# Altium schematic symbol library IC_Digital.SchLib: 22 symbols
Pins are listed as number, name and electrical type; pins without a type are passive.

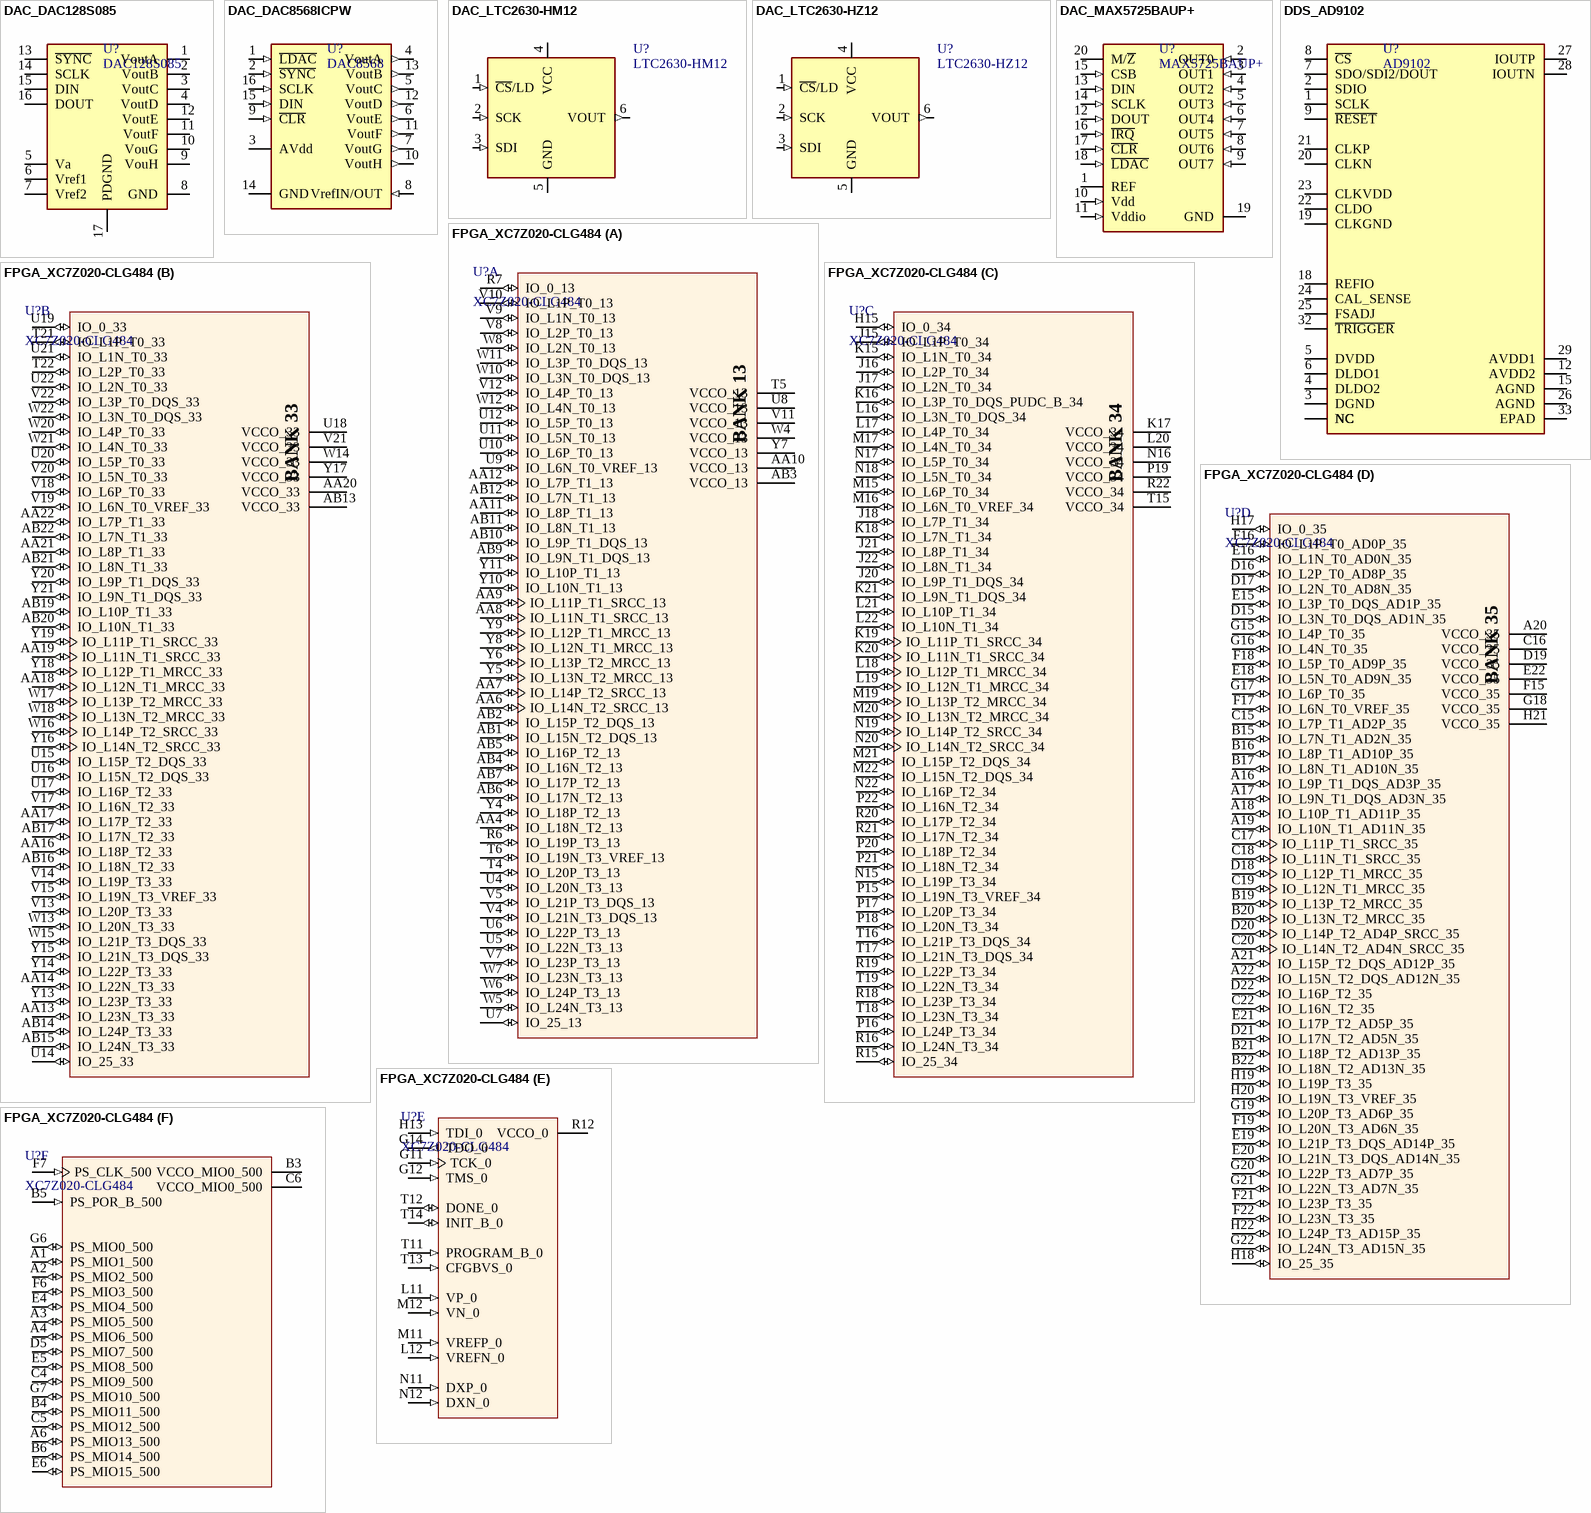
[diagram p0: symbols DAC_DAC128S085 to FPGA_XC7Z020-CLG484]

## DAC_DAC128S085
designator U?, comment DAC128S085
8 Channel 12bit DAC; Manufacturer: Texas Instruments; Manufacturer No: DAC128S085CISQ/NOPB; Tech: SMDR; Package: WFQFN16; Supplier 1: Mouser; Supplier Part Number 1: 926-DA128S085CISQNPB; Supplier 2: Newark; Supplier Part Number 2: 84M7863; Supplier 3: Digi-Key; Supplier Part Number 3: DAC128S085CISQ/NOPBCT-ND
footprint QFN50P400X400X80EP260-16L (QFN, 16-Leads, Body 4,0x4,0mm (max), Pitch 0,50mm, IPC Medium Density)
pins: 1 VoutA, 2 VoutB, 3 VoutC, 4 VoutD, 5 Va, 6 Vref1, 7 Vref2, 8 GND, 9 VouH, 10 VouG, 11 VoutF, 12 VoutE, 13 ~{SYNC}, 14 SCLK, 15 DIN, 16 DOUT, 17 PDGND

## DAC_DAC8568ICPW
designator U?  Comment_2: DAC8568  (hidden comment: *)
8 Channel 16bit DAC; Manufacturer: Texas Instruments; Manufacturer No: DAC8568ICPW; Sort: 510; Tech: SMDR; Package: TSSOP16; Price: 27.81; Supplier: Digi-Key; Supplier No: 296-24446-5-ND; Supplier 1: Digi-Key; Supplier Part Number 1: 296-24446-5-ND; Supplier 2: Newark; Supplier Part Number 2: 24R5981; Comment_1: *
footprint TSSOP16 (TSSOP16 5x4.4mm R0.65mm)
pins: 1 ~{LDAC} (in), 2 ~{SYNC} (in), 3 AVdd (power), 4 VoutA (out), 5 VoutC (out), 6 VoutE (out), 7 VoutG (out), 8 VrefIN/OUT (in), 9 ~{CLR} (in), 10 VoutH (out), 11 VoutF (out), 12 VoutD (out), 13 VoutB (out), 14 GND (power), 15 DIN (in), 16 SCLK (in)

## DAC_LTC2630-HM12
designator U?, comment LTC2630-HM12
12-Bit Vout DAC; Manufacturer: Linear Technology; Manufacturer No: LTC2630CSC6-HM12#TRMPBF; Comment2: 12bit 4.096Vout Mid-Scale; Tech: SMDR; Package: 6-Lead Plastic SC70; Supplier 1: Digi-Key; Supplier Part Number 1: LTC2630CSC6-HM12#TRMPBFCT-ND
footprint SC70-6 (6-Leads, Body 2,0x2,1mm (max), Pitch 0,65mm, IPC Medium Density)
pins: 1 ~{CS}/LD (in), 2 SCK (in), 3 SDI (in), 4 VCC (power), 5 GND (power), 6 VOUT (out)

## DAC_LTC2630-HZ12
designator U?, comment LTC2630-HZ12
12-Bit Vout DAC 12 bit 4.096IntREF ResetToZero; Manufacturer: Linear Technology; Manufacturer No: LTC2630AISC6-HZ12#TRMPBF; Comment2: 12bit 4.096Vout Mid-Scale; Tech: SMDR; Package: 6-Lead Plastic SC70; Supplier 1: Newark; Supplier Part Number 1: 56M6136; Supplier 2: Digi-Key; Supplier Part Number 2: LTC2630AISC6-HZ12#TRMPBFCT-ND
footprint SC70-6 (6-Leads, Body 2,0x2,1mm (max), Pitch 0,65mm, IPC Medium Density)
pins: 1 ~{CS}/LD (in), 2 SCK (in), 3 SDI (in), 4 VCC (power), 5 GND (power), 6 VOUT (out)

## DAC_MAX5725BAUP+
designator U?, comment MAX5725BAUP+
8 Channel 12bit DAC; Manufacturer: Maxim; Tech: SMDR; Manufacturer No: MAX5725BAUP+; Package: TSSOP20; Supplier 1: Mouser; Supplier Part Number 1: 700-MAX5725BAUP+; Supplier 2: Digi-Key; Supplier Part Number 2: MAX5725BAUP+-ND
footprint TSSOP20N (TSSOP 20, Body 6,6x4,5mm, R0,65mm, IPC Medium Density)
pins: 1 REF, 2 OUT0 (in), 3 OUT1 (in), 4 OUT2 (in), 5 OUT3 (in), 6 OUT4 (in), 7 OUT5 (in), 8 OUT6 (in), 9 OUT7 (in), 10 Vdd (in), 11 Vddio (in), 12 DOUT (in), 13 DIN (in), 14 SCLK (in), 15 CSB (in), 16 ~{IRQ} (in), 17 ~{CLR} (in), 18 ~{LDAC} (in), 19 GND, 20 M/~{Z}

## DDS_AD9102
designator U?, comment AD9102
Low Power, 14-Bit, 180 MSPS, Digital-to-Analog  Converter and Waveform Generator; Manufacturer: Analog Devices; Manufacturer No: AD9102BCPZ; Tech: SMDR; Package: QFN32; Supplier 1: Mouser; Supplier Part Number 1: 584-AD9102BCPZ; Supplier 2: Newark; Supplier Part Number 2: 55W5824; Supplier 3: Digi-Key; Supplier Part Number 3: AD9102BCPZ-ND
footprint QFN50P500X500X100-32N2 (QFN, 32-Leads, Body 5,0x5,0mm (max), Pitch 0,50mm, IPC Medium Density)
pins: 1 SCLK, 2 SDIO, 3 DGND, 4 DLDO2, 5 DVDD, 6 DLDO1, 7 SDO/SDI2/DOUT, 8 ~{CS}, 9 ~{RESET}, 10 NC, 11 NC, 12 AVDD2, 13 NC, 14 NC, 15 AGND, 16 NC, 17 NC, 18 REFIO, 19 CLKGND, 20 CLKN, 21 CLKP, 22 CLDO, 23 CLKVDD, 24 CAL_SENSE, 25 FSADJ, 26 AGND, 27 IOUTP, 28 IOUTN, 29 AVDD1, 30 NC, 31 NC, 32 ~{TRIGGER}, 33 EPAD

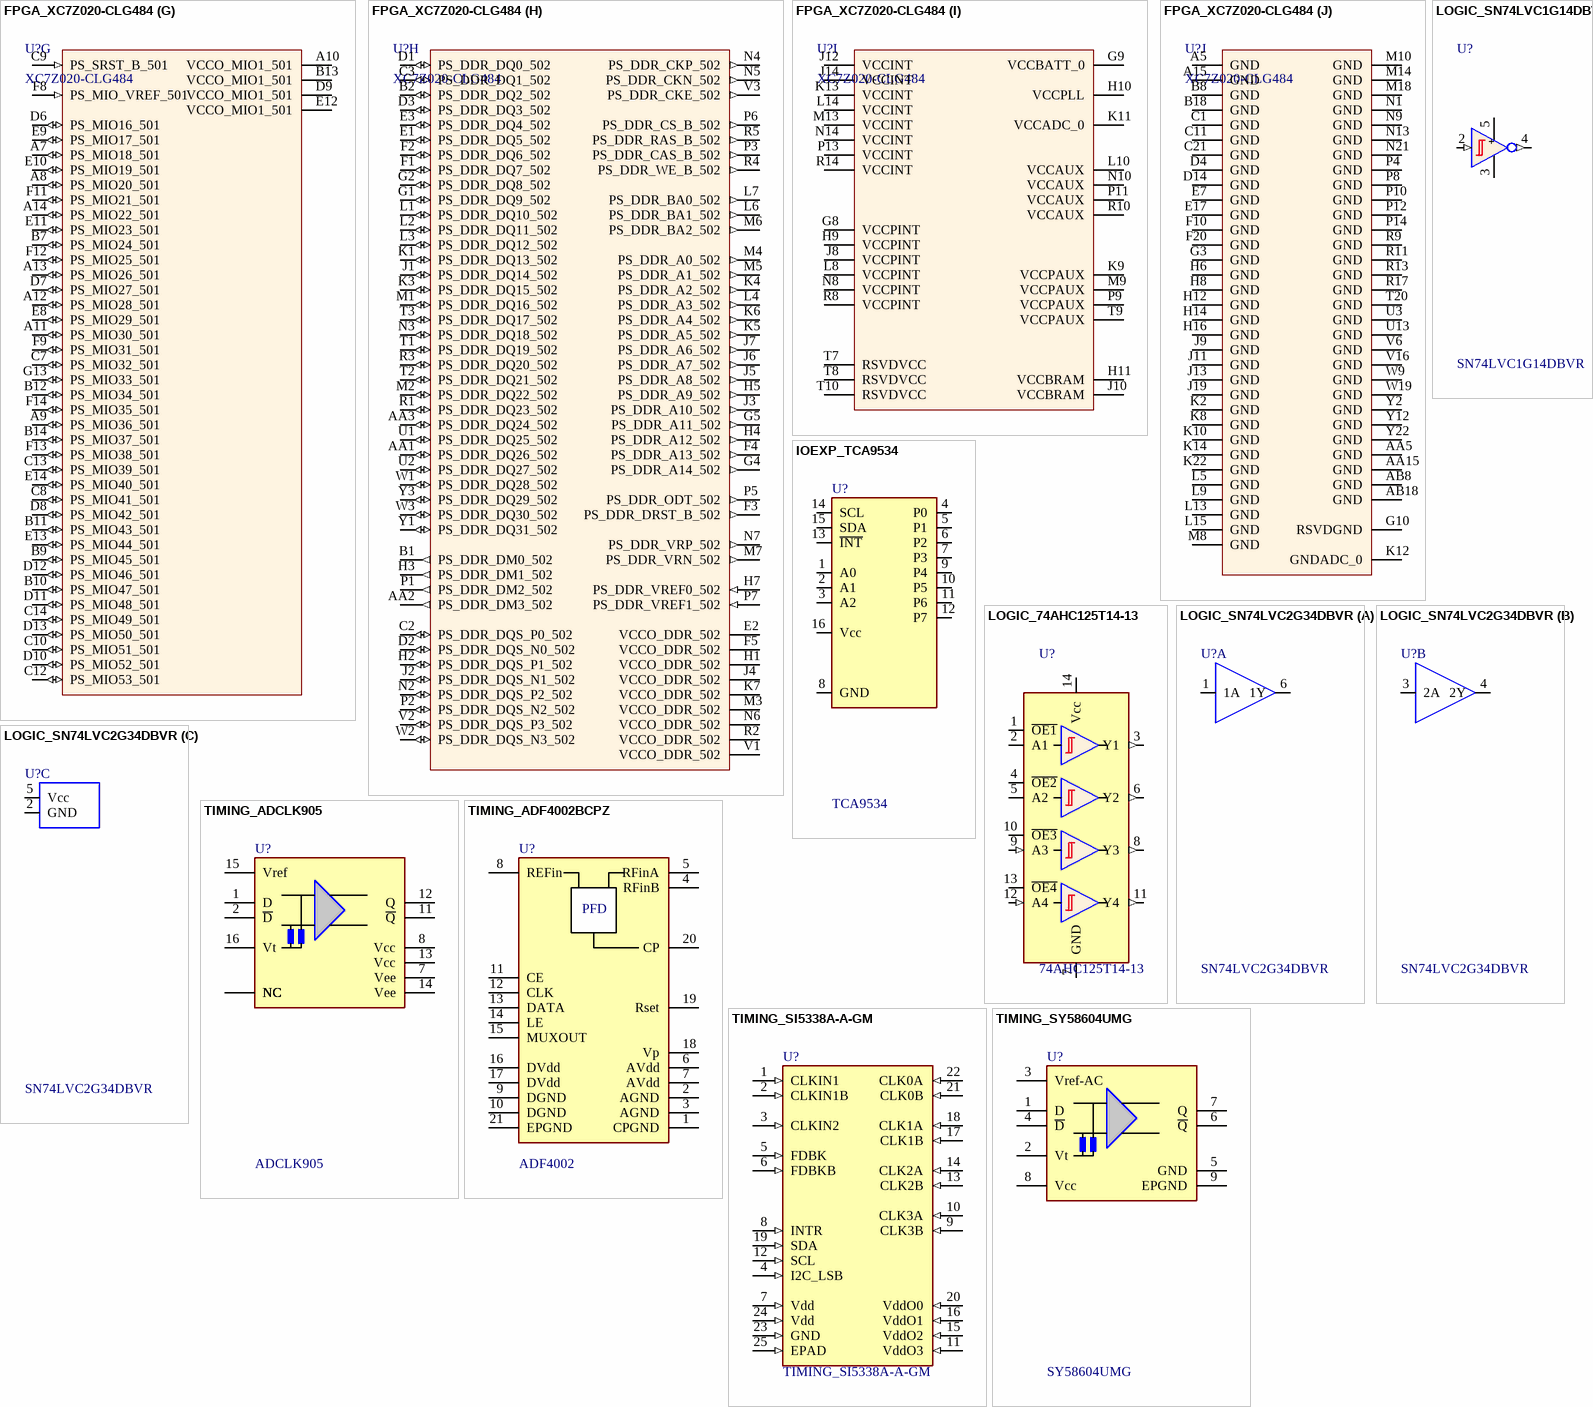
[diagram p1: symbols FPGA_XC7Z020-CLG484 to TIMING_SY58604UMG]

## FPGA_XC7Z020-CLG484
designator U?, comment XC7Z020-CLG484
Xilinx Zynq7020 (CortexA9/Artix) 484 pin SG1 0 to 85 degC; Manufacturer No: XC7Z020-1CLG484C; Tech: SMDR; Manufacturer: Xilinx; Package: CLG484; Supplier 1: Digi-Key; Supplier Part Number 1: 122-1850-ND
footprint BGA484C80P22X22_1900X1900X160 (BGA, 484-Balls, Body 19x19mm, Pitch 0.8mm)
part A pins: AA4 IO_L18N_T2_13 (io), AA6 IO_L14N_T2_SRCC_13 (io), AA7 IO_L14P_T2_SRCC_13 (io), AA8 IO_L11N_T1_SRCC_13 (io), AA9 IO_L11P_T1_SRCC_13 (io), AA10 VCCO_13 (power), AA11 IO_L8P_T1_13 (io), AA12 IO_L7P_T1_13 (io), AB1 IO_L15N_T2_DQS_13 (io), AB2 IO_L15P_T2_DQS_13 (io), AB3 VCCO_13 (power), AB4 IO_L16N_T2_13 (io), AB5 IO_L16P_T2_13 (io), AB6 IO_L17N_T2_13 (io), AB7 IO_L17P_T2_13 (io), AB9 IO_L9N_T1_DQS_13 (io), AB10 IO_L9P_T1_DQS_13 (io), AB11 IO_L8N_T1_13 (io), AB12 IO_L7N_T1_13 (io), R6 IO_L19P_T3_13 (io), R7 IO_0_13 (io), T4 IO_L20P_T3_13 (io), T5 VCCO_13 (power), T6 IO_L19N_T3_VREF_13 (io), U4 IO_L20N_T3_13 (io), U5 IO_L22N_T3_13 (io), U6 IO_L22P_T3_13 (io), U7 IO_25_13 (io), U8 VCCO_13 (power), U9 IO_L6N_T0_VREF_13 (io), U10 IO_L6P_T0_13 (io), U11 IO_L5N_T0_13 (io), U12 IO_L5P_T0_13 (io), V4 IO_L21N_T3_DQS_13 (io), V5 IO_L21P_T3_DQS_13 (io), V7 IO_L23P_T3_13 (io), V8 IO_L2P_T0_13 (io), V9 IO_L1N_T0_13 (io), V10 IO_L1P_T0_13 (io), V11 VCCO_13 (power), V12 IO_L4P_T0_13 (io), W4 VCCO_13 (power), W5 IO_L24N_T3_13 (io), W6 IO_L24P_T3_13 (io), W7 IO_L23N_T3_13 (io), W8 IO_L2N_T0_13 (io), W10 IO_L3N_T0_DQS_13 (io), W11 IO_L3P_T0_DQS_13 (io), W12 IO_L4N_T0_13 (io), Y4 IO_L18P_T2_13 (io), Y5 IO_L13N_T2_MRCC_13 (io), Y6 IO_L13P_T2_MRCC_13 (io), Y7 VCCO_13 (power), Y8 IO_L12N_T1_MRCC_13 (io), Y9 IO_L12P_T1_MRCC_13 (io), Y10 IO_L10N_T1_13 (io), Y11 IO_L10P_T1_13 (io)
part B pins: AA13 IO_L23N_T3_33 (io), AA14 IO_L22N_T3_33 (io), AA16 IO_L18P_T2_33 (io), AA17 IO_L17P_T2_33 (io), AA18 IO_L12N_T1_MRCC_33 (io), AA19 IO_L11N_T1_SRCC_33 (io), AA20 VCCO_33 (power), AA21 IO_L8P_T1_33 (io), AA22 IO_L7P_T1_33 (io), AB13 VCCO_33 (power), AB14 IO_L24P_T3_33 (io), AB15 IO_L24N_T3_33 (io), AB16 IO_L18N_T2_33 (io), AB17 IO_L17N_T2_33 (io), AB19 IO_L10P_T1_33 (io), AB20 IO_L10N_T1_33 (io), AB21 IO_L8N_T1_33 (io), AB22 IO_L7N_T1_33 (io), T21 IO_L1P_T0_33 (io), T22 IO_L2P_T0_33 (io), U14 IO_25_33 (io), U15 IO_L15P_T2_DQS_33 (io), U16 IO_L15N_T2_DQS_33 (io), U17 IO_L16P_T2_33 (io), U18 VCCO_33 (power), U19 IO_0_33 (io), U20 IO_L5P_T0_33 (io), U21 IO_L1N_T0_33 (io), U22 IO_L2N_T0_33 (io), V13 IO_L20P_T3_33 (io), V14 IO_L19P_T3_33 (io), V15 IO_L19N_T3_VREF_33 (io), V17 IO_L16N_T2_33 (io), V18 IO_L6P_T0_33 (io), V19 IO_L6N_T0_VREF_33 (io), V20 IO_L5N_T0_33 (io), V21 VCCO_33 (power), V22 IO_L3P_T0_DQS_33 (io), W13 IO_L20N_T3_33 (io), W14 VCCO_33 (power), W15 IO_L21P_T3_DQS_33 (io), W16 IO_L14P_T2_SRCC_33 (io), W17 IO_L13P_T2_MRCC_33 (io), W18 IO_L13N_T2_MRCC_33 (io), W20 IO_L4P_T0_33 (io), W21 IO_L4N_T0_33 (io), W22 IO_L3N_T0_DQS_33 (io), Y13 IO_L23P_T3_33 (io), Y14 IO_L22P_T3_33 (io), Y15 IO_L21N_T3_DQS_33 (io), Y16 IO_L14N_T2_SRCC_33 (io), Y17 VCCO_33 (power), Y18 IO_L12P_T1_MRCC_33 (io), Y19 IO_L11P_T1_SRCC_33 (io), Y20 IO_L9P_T1_DQS_33 (io), Y21 IO_L9N_T1_DQS_33 (io)
part C pins: H15 IO_0_34 (io), J15 IO_L1P_T0_34 (io), J16 IO_L2P_T0_34 (io), J17 IO_L2N_T0_34 (io), J18 IO_L7P_T1_34 (io), J20 IO_L9P_T1_DQS_34 (io), J21 IO_L8P_T1_34 (io), J22 IO_L8N_T1_34 (io), K15 IO_L1N_T0_34 (io), K16 IO_L3P_T0_DQS_PUDC_B_34 (io), K17 VCCO_34 (power), K18 IO_L7N_T1_34 (io), K19 IO_L11P_T1_SRCC_34 (io), K20 IO_L11N_T1_SRCC_34 (io), K21 IO_L9N_T1_DQS_34 (io), L16 IO_L3N_T0_DQS_34 (io), L17 IO_L4P_T0_34 (io), L18 IO_L12P_T1_MRCC_34 (io), L19 IO_L12N_T1_MRCC_34 (io), L20 VCCO_34 (power), L21 IO_L10P_T1_34 (io), L22 IO_L10N_T1_34 (io), M15 IO_L6P_T0_34 (io), M16 IO_L6N_T0_VREF_34 (io), M17 IO_L4N_T0_34 (io), M19 IO_L13P_T2_MRCC_34 (io), M20 IO_L13N_T2_MRCC_34 (io), M21 IO_L15P_T2_DQS_34 (io), M22 IO_L15N_T2_DQS_34 (io), N15 IO_L19P_T3_34 (io), N16 VCCO_34 (power), N17 IO_L5P_T0_34 (io), N18 IO_L5N_T0_34 (io), N19 IO_L14P_T2_SRCC_34 (io), N20 IO_L14N_T2_SRCC_34 (io), N22 IO_L16P_T2_34 (io), P15 IO_L19N_T3_VREF_34 (io), P16 IO_L24P_T3_34 (io), P17 IO_L20P_T3_34 (io), P18 IO_L20N_T3_34 (io), P19 VCCO_34 (power), P20 IO_L18P_T2_34 (io), P21 IO_L18N_T2_34 (io), P22 IO_L16N_T2_34 (io), R15 IO_25_34 (io), R16 IO_L24N_T3_34 (io), R18 IO_L23P_T3_34 (io), R19 IO_L22P_T3_34 (io), R20 IO_L17P_T2_34 (io), R21 IO_L17N_T2_34 (io), R22 VCCO_34 (power), T15 VCCO_34 (power), T16 IO_L21P_T3_DQS_34 (io), T17 IO_L21N_T3_DQS_34 (io), T18 IO_L23N_T3_34 (io), T19 IO_L22N_T3_34 (io)
part D pins: A16 IO_L9P_T1_DQS_AD3P_35 (io), A17 IO_L9N_T1_DQS_AD3N_35 (io), A18 IO_L10P_T1_AD11P_35 (io), A19 IO_L10N_T1_AD11N_35 (io), A20 VCCO_35 (power), A21 IO_L15P_T2_DQS_AD12P_35 (io), A22 IO_L15N_T2_DQS_AD12N_35 (io), B15 IO_L7N_T1_AD2N_35 (io), B16 IO_L8P_T1_AD10P_35 (io), B17 IO_L8N_T1_AD10N_35 (io), B19 IO_L13P_T2_MRCC_35 (io), B20 IO_L13N_T2_MRCC_35 (io), B21 IO_L18P_T2_AD13P_35 (io), B22 IO_L18N_T2_AD13N_35 (io), C15 IO_L7P_T1_AD2P_35 (io), C16 VCCO_35 (power), C17 IO_L11P_T1_SRCC_35 (io), C18 IO_L11N_T1_SRCC_35 (io), C19 IO_L12N_T1_MRCC_35 (io), C20 IO_L14N_T2_AD4N_SRCC_35 (io), C22 IO_L16N_T2_35 (io), D15 IO_L3N_T0_DQS_AD1N_35 (io), D16 IO_L2P_T0_AD8P_35 (io), D17 IO_L2N_T0_AD8N_35 (io), D18 IO_L12P_T1_MRCC_35 (io), D19 VCCO_35 (power), D20 IO_L14P_T2_AD4P_SRCC_35 (io), D21 IO_L17N_T2_AD5N_35 (io), D22 IO_L16P_T2_35 (io), E15 IO_L3P_T0_DQS_AD1P_35 (io), E16 IO_L1N_T0_AD0N_35 (io), E18 IO_L5N_T0_AD9N_35 (io), E19 IO_L21P_T3_DQS_AD14P_35 (io), E20 IO_L21N_T3_DQS_AD14N_35 (io), E21 IO_L17P_T2_AD5P_35 (io), E22 VCCO_35 (power), F15 VCCO_35 (power), F16 IO_L1P_T0_AD0P_35 (io), F17 IO_L6N_T0_VREF_35 (io), F18 IO_L5P_T0_AD9P_35 (io), F19 IO_L20N_T3_AD6N_35 (io), F21 IO_L23P_T3_35 (io), F22 IO_L23N_T3_35 (io), G15 IO_L4P_T0_35 (io), G16 IO_L4N_T0_35 (io), G17 IO_L6P_T0_35 (io), G18 VCCO_35 (power), G19 IO_L20P_T3_AD6P_35 (io), G20 IO_L22P_T3_AD7P_35 (io), G21 IO_L22N_T3_AD7N_35 (io), G22 IO_L24N_T3_AD15N_35 (io), H17 IO_0_35 (io), H18 IO_25_35 (io), H19 IO_L19P_T3_35 (io), H20 IO_L19N_T3_VREF_35 (io), H21 VCCO_35 (power), H22 IO_L24P_T3_AD15P_35 (io)
part E pins: G11 TCK_0 (in), G12 TMS_0 (in), G14 TDO_0 (out), H13 TDI_0 (in), L11 VP_0 (in), L12 VREFN_0 (in), M11 VREFP_0 (in), M12 VN_0 (in), N11 DXP_0 (in), N12 DXN_0 (in), R12 VCCO_0 (power), T11 PROGRAM_B_0 (in), T12 DONE_0 (io), T13 CFGBVS_0 (in), T14 INIT_B_0 (io)
part F pins: A1 PS_MIO1_500 (io), A2 PS_MIO2_500 (io), A3 PS_MIO5_500 (io), A4 PS_MIO6_500 (io), A6 PS_MIO13_500 (io), B3 VCCO_MIO0_500 (power), B4 PS_MIO11_500 (io), B5 PS_POR_B_500 (in), B6 PS_MIO14_500 (io), C4 PS_MIO9_500 (io), C5 PS_MIO12_500 (io), C6 VCCO_MIO0_500 (power), D5 PS_MIO7_500 (io), E4 PS_MIO4_500 (io), E5 PS_MIO8_500 (io), E6 PS_MIO15_500 (io), F6 PS_MIO3_500 (io), F7 PS_CLK_500 (in), G6 PS_MIO0_500 (io), G7 PS_MIO10_500 (io)
part G pins: A7 PS_MIO18_501 (io), A8 PS_MIO20_501 (io), A9 PS_MIO36_501 (io), A10 VCCO_MIO1_501 (power), A11 PS_MIO30_501 (io), A12 PS_MIO28_501 (io), A13 PS_MIO26_501 (io), A14 PS_MIO22_501 (io), B7 PS_MIO24_501 (io), B9 PS_MIO45_501 (io), B10 PS_MIO47_501 (io), B11 PS_MIO43_501 (io), B12 PS_MIO34_501 (io), B13 VCCO_MIO1_501 (power), B14 PS_MIO37_501 (io), C7 PS_MIO32_501 (io), C8 PS_MIO41_501 (io), C9 PS_SRST_B_501 (in), C10 PS_MIO51_501 (io), C12 PS_MIO53_501 (io), C13 PS_MIO39_501 (io), C14 PS_MIO49_501 (io), D6 PS_MIO16_501 (io), D7 PS_MIO27_501 (io), D8 PS_MIO42_501 (io), D9 VCCO_MIO1_501 (power), D10 PS_MIO52_501 (io), D11 PS_MIO48_501 (io), D12 PS_MIO46_501 (io), D13 PS_MIO50_501 (io), E8 PS_MIO29_501 (io), E9 PS_MIO17_501 (io), E10 PS_MIO19_501 (io), E11 PS_MIO23_501 (io), E12 VCCO_MIO1_501 (power), E13 PS_MIO44_501 (io), E14 PS_MIO40_501 (io), F8 PS_MIO_VREF_501 (in), F9 PS_MIO31_501 (io), F11 PS_MIO21_501 (io), F12 PS_MIO25_501 (io), F13 PS_MIO38_501 (io), F14 PS_MIO35_501 (io), G13 PS_MIO33_501 (io)
part H pins: AA1 PS_DDR_DQ26_502 (io), AA2 PS_DDR_DM3_502 (out), AA3 PS_DDR_DQ24_502 (io), B1 PS_DDR_DM0_502 (out), B2 PS_DDR_DQ2_502 (io), C2 PS_DDR_DQS_P0_502 (io), C3 PS_DDR_DQ1_502 (io), D1 PS_DDR_DQ0_502 (io), D2 PS_DDR_DQS_N0_502 (io), D3 PS_DDR_DQ3_502 (io), E1 PS_DDR_DQ5_502 (io), E2 VCCO_DDR_502 (power), E3 PS_DDR_DQ4_502 (io), F1 PS_DDR_DQ7_502 (io), F2 PS_DDR_DQ6_502 (io), F3 PS_DDR_DRST_B_502 (out), F4 PS_DDR_A13_502 (out), F5 VCCO_DDR_502 (power), G1 PS_DDR_DQ9_502 (io), G2 PS_DDR_DQ8_502 (io), G4 PS_DDR_A14_502 (out), G5 PS_DDR_A11_502 (out), H1 VCCO_DDR_502 (power), H2 PS_DDR_DQS_P1_502 (io), H3 PS_DDR_DM1_502 (out), H4 PS_DDR_A12_502 (out), H5 PS_DDR_A9_502 (out), H7 PS_DDR_VREF0_502 (in), J1 PS_DDR_DQ14_502 (io), J2 PS_DDR_DQS_N1_502 (io), J3 PS_DDR_A10_502 (out), J4 VCCO_DDR_502 (power), J5 PS_DDR_A8_502 (out), J6 PS_DDR_A7_502 (out), J7 PS_DDR_A6_502 (out), K1 PS_DDR_DQ13_502 (io), K3 PS_DDR_DQ15_502 (io), K4 PS_DDR_A2_502 (out), K5 PS_DDR_A5_502 (out), K6 PS_DDR_A4_502 (out), K7 VCCO_DDR_502 (power), L1 PS_DDR_DQ10_502 (io), L2 PS_DDR_DQ11_502 (io), L3 PS_DDR_DQ12_502 (io), L4 PS_DDR_A3_502 (out), L6 PS_DDR_BA1_502 (out), L7 PS_DDR_BA0_502 (out), M1 PS_DDR_DQ16_502 (io), M2 PS_DDR_DQ22_502 (io), M3 VCCO_DDR_502 (power), M4 PS_DDR_A0_502 (out), M5 PS_DDR_A1_502 (out), M6 PS_DDR_BA2_502 (out), M7 PS_DDR_VRN_502 (out), N2 PS_DDR_DQS_P2_502 (io), N3 PS_DDR_DQ18_502 (io), N4 PS_DDR_CKP_502 (out), N5 PS_DDR_CKN_502 (out), N6 VCCO_DDR_502 (power), N7 PS_DDR_VRP_502 (out), P1 PS_DDR_DM2_502 (out), P2 PS_DDR_DQS_N2_502 (io), P3 PS_DDR_CAS_B_502 (out), P5 PS_DDR_ODT_502 (out), P6 PS_DDR_CS_B_502 (out), P7 PS_DDR_VREF1_502 (in), R1 PS_DDR_DQ23_502 (io), R2 VCCO_DDR_502 (power), R3 PS_DDR_DQ20_502 (io), R4 PS_DDR_WE_B_502 (out), R5 PS_DDR_RAS_B_502 (out), T1 PS_DDR_DQ19_502 (io), T2 PS_DDR_DQ21_502 (io), T3 PS_DDR_DQ17_502 (io), U1 PS_DDR_DQ25_502 (io), U2 PS_DDR_DQ27_502 (io), V1 VCCO_DDR_502 (power), V2 PS_DDR_DQS_P3_502 (io), V3 PS_DDR_CKE_502 (out), W1 PS_DDR_DQ28_502 (io), W2 PS_DDR_DQS_N3_502 (io), W3 PS_DDR_DQ30_502 (io), Y1 PS_DDR_DQ31_502 (io), Y3 PS_DDR_DQ29_502 (io)
part I pins: G8 VCCPINT (power), G9 VCCBATT_0 (power), H9 VCCPINT (power), H10 VCCPLL (power), H11 VCCBRAM (power), J8 VCCPINT (power), J10 VCCBRAM (power), J12 VCCINT (power), J14 VCCINT (power), K9 VCCPAUX (power), K11 VCCADC_0 (power), K13 VCCINT (power), L8 VCCPINT (power), L10 VCCAUX (power), L14 VCCINT (power), M9 VCCPAUX (power), M13 VCCINT (power), N8 VCCPINT (power), N10 VCCAUX (power), N14 VCCINT (power), P9 VCCPAUX (power), P11 VCCAUX (power), P13 VCCINT (power), R8 VCCPINT (power), R10 VCCAUX (power), R14 VCCINT (power), T7 RSVDVCC (power), T8 RSVDVCC (power), T9 VCCPAUX (power), T10 RSVDVCC (power)
part J pins: A5 GND (power), A15 GND (power), AA5 GND (power), AA15 GND (power), AB8 GND (power), AB18 GND (power), B8 GND (power), B18 GND (power), C1 GND (power), C11 GND (power), C21 GND (power), D4 GND (power), D14 GND (power), E7 GND (power), E17 GND (power), F10 GND (power), F20 GND (power), G3 GND (power), G10 RSVDGND (power), H6 GND (power), H8 GND (power), H12 GND (power), H14 GND (power), H16 GND (power), J9 GND (power), J11 GND (power), J13 GND (power), J19 GND (power), K2 GND (power), K8 GND (power), K10 GND (power), K12 GNDADC_0 (power), K14 GND (power), K22 GND (power), L5 GND (power), L9 GND (power), L13 GND (power), L15 GND (power), M8 GND (power), M10 GND (power), M14 GND (power), M18 GND (power), N1 GND (power), N9 GND (power), N13 GND (power), N21 GND (power), P4 GND (power), P8 GND (power), P10 GND (power), P12 GND (power), P14 GND (power), R9 GND (power), R11 GND (power), R13 GND (power), R17 GND (power), T20 GND (power), U3 GND (power), U13 GND (power), V6 GND (power), V16 GND (power), W9 GND (power), W19 GND (power), Y2 GND (power), Y12 GND (power), Y22 GND (power)
part A text: BANK 13
part B text: BANK 33
part C text: BANK 34
part D text: BANK 35

## IOEXP_TCA9534
designator U?, comment TCA9534
8-Bit I2C I/O Expander With Interrupt  Output and Configuration Registers; Manufacturer: Texas Instruments; Manufacturer No: TCA9534PWR; Tech: SMDR; Package: LFCSP-16; Supplier 1: Mouser; Supplier Part Number 1: 595-TCA9534PWR; Supplier 2: Newark; Supplier Part Number 2: 87X2228; Supplier 3: Digi-Key; Supplier Part Number 3: 296-40574-1-ND
footprint TSSOP16 (TSSOP16 5x4.4mm R0.65mm)
pins: 1 A0, 2 A1, 3 A2, 4 P0, 5 P1, 6 P2, 7 P3, 8 GND, 9 P4, 10 P5, 11 P6, 12 P7, 13 ~{INT}, 14 SCL, 15 SDA, 16 Vcc

## LOGIC_74AHC125T14-13
designator U?, comment 74AHC125T14-13
Quad Schmitt trigger buffer; Manufacturer: Diodes; Tech: SMDR; Manufacturer No: 74AHC125T14-13; Package: TSSOP14; Supplier 1: Mouser; Supplier 2: Digi-Key
footprint TSOP65P640X120-14N (TSSOP14, 14-Leads, Body 5,1x4,4mm (max), Pitch 0,65mm, IPC Medium Density)
pins: 1 ~{OE1}, 2 A1, 3 Y1 (out), 4 ~{OE2}, 5 A2, 6 Y2 (out), 7 GND, 8 Y3 (out), 9 A3 (in), 10 ~{OE3}, 11 Y4 (out), 12 A4 (in), 13 ~{OE4}, 14 Vcc

## LOGIC_SN74LVC1G14DBVR
designator U?, comment SN74LVC1G14DBVR
Single Schmitt trigger Inverter; Manufacturer: Texas; Tech: SMDR; Manufacturer No: SN74LVC1G14DBVR; Package: SOT23-5; Supplier 1: Mouser; Supplier Part Number 1: 595-SN74LVC1G14DBVR; Supplier 2: Digi-Key; Supplier Part Number 2: 296-35945-6-ND
footprint SOT23-5
pins: 2 A (in), 3 GND, 4 Y (out), 5 Vcc
text: +

## LOGIC_SN74LVC2G34DBVR
designator U?, comment SN74LVC2G34DBVR
Dual Gate Buffer; Manufacturer: Texas Instruments; Tech: SMDR; Manufacturer No: SN74LVC2G34DBVR; Package: SOT23-6; Supplier 1: Newark; Supplier Part Number 1: 76C4213; Supplier 2: Mouser; Supplier Part Number 2: 595-SN74LVC2G34DBVR; Supplier 3: Digi-Key; Supplier Part Number 3: 296-13496-1-ND
footprint SOT23-6
part A pins: 1 1A, 6 1Y
part B pins: 3 2A, 4 2Y
part C pins: 2 GND, 5 Vcc

## TIMING_ADCLK905
designator U?, comment ADCLK905
SiGe ECL Clock/Data Buffers; Manufacturer: Analog Devices; Manufacturer No: ADCLK905BCPZ-WP; Tech: SMDR; Package: LFCSP-16; Supplier 1: Digi-Key; Supplier Part Number 1: ADCLK905BCPZ-WP-ND; Supplier 2: Newark; Supplier Part Number 2: 30Y9793; Supplier 3: Mouser; Supplier Part Number 3: 584-ADCLK905BCPZ-WP
footprint LFCSP16 (Lead Frame Chip Scale Package 16 pin 3x3mm R0.5mm)
pins: 1 D, 2 ~{D}, 3 NC, 4 NC, 5 NC, 6 NC, 7 Vee, 8 Vcc, 9 NC, 10 NC, 11 ~{Q}, 12 Q, 13 Vcc, 14 Vee, 15 Vref, 16 Vt, 17 NC

## TIMING_ADF4002BCPZ
designator U?, comment ADF4002
Phase Detector/Frequency Synthesizer; Manufacturer: Analog Devices; Manufacturer No: ADF4002BCPZ; Tech: SMDR; Package: LFCSP-16; Supplier 1: Digi-Key; Supplier Part Number 1: ADF4002BCPZ-ND; Supplier 2: Mouser; Supplier Part Number 2: 584-ADF4002BCPZ; Supplier 3: Newark; Supplier Part Number 3: 12M7708
footprint QFN50P400X400X100-20N (QFN, 20-Leads, Body 4,0x4,0mm (max), Pitch 0,50mm, IPC Medium Density)
pins: 1 CPGND, 2 AGND, 3 AGND, 4 RFinB, 5 RFinA, 6 AVdd, 7 AVdd, 8 REFin, 9 DGND, 10 DGND, 11 CE, 12 CLK, 13 DATA, 14 LE, 15 MUXOUT, 16 DVdd, 17 DVdd, 18 Vp, 19 Rset, 20 CP, 21 EPGND
text: PFD

## TIMING_SI5338A-A-GM
designator U?
I2C Any-Frequency, Any-Output  Quad Clock Generator; Manufacturer: Silicon Labs; Manufacturer No: SI5338A-B-GM; Tech: SMDR; Package: QFN-24; Supplier 1: Newark; Supplier Part Number 1: 54X5542; Supplier 2: Mouser; Supplier Part Number 2: 634-SI5338A-B-GM; Supplier 3: Digi-Key; Supplier Part Number 3: 336-2552-ND
footprint QFN24-1 (QFN24; 24 Leads; Body Width 4.0 mm; Pitch 0.5 mm)
pins: 1 CLKIN1 (in), 2 CLKIN1B (in), 3 CLKIN2 (in), 4 I2C_LSB (in), 5 FDBK (in), 6 FDBKB (in), 7 Vdd (in), 8 INTR (in), 9 CLK3B (in), 10 CLK3A (in), 11 VddO3 (in), 12 SCL (in), 13 CLK2B (in), 14 CLK2A (in), 15 VddO2 (in), 16 VddO1 (in), 17 CLK1B (in), 18 CLK1A (in), 19 SDA (in), 20 VddO0 (in), 21 CLK0B (in), 22 CLK0A (in), 23 GND (in), 24 Vdd (in), 25 EPAD (in)

## TIMING_SY58604UMG
designator U?, comment SY58604UMG
LVPECL Buffer with Internal Termination 3.2Gbps; Manufacturer: Micrel; Manufacturer No: SY58604UMG TR; Tech: SMDR; Package: LFCSP-16; Supplier 1: Digi-Key; Supplier Part Number 1: 576-1595-1-ND; Supplier 2: Mouser; Supplier Part Number 2: 998-SY58604UMGTR
footprint QFN50P200X200X85_HS-9N (QFN, 8-Leads, Body 2.00x2.00mm, Pitch 0.50mm, Thermal Pad 0.60x1.20mm, IPC Medium Density)
pins: 1 D, 2 Vt, 3 Vref-AC, 4 ~{D}, 5 GND, 6 ~{Q}, 7 Q, 8 Vcc, 9 EPGND

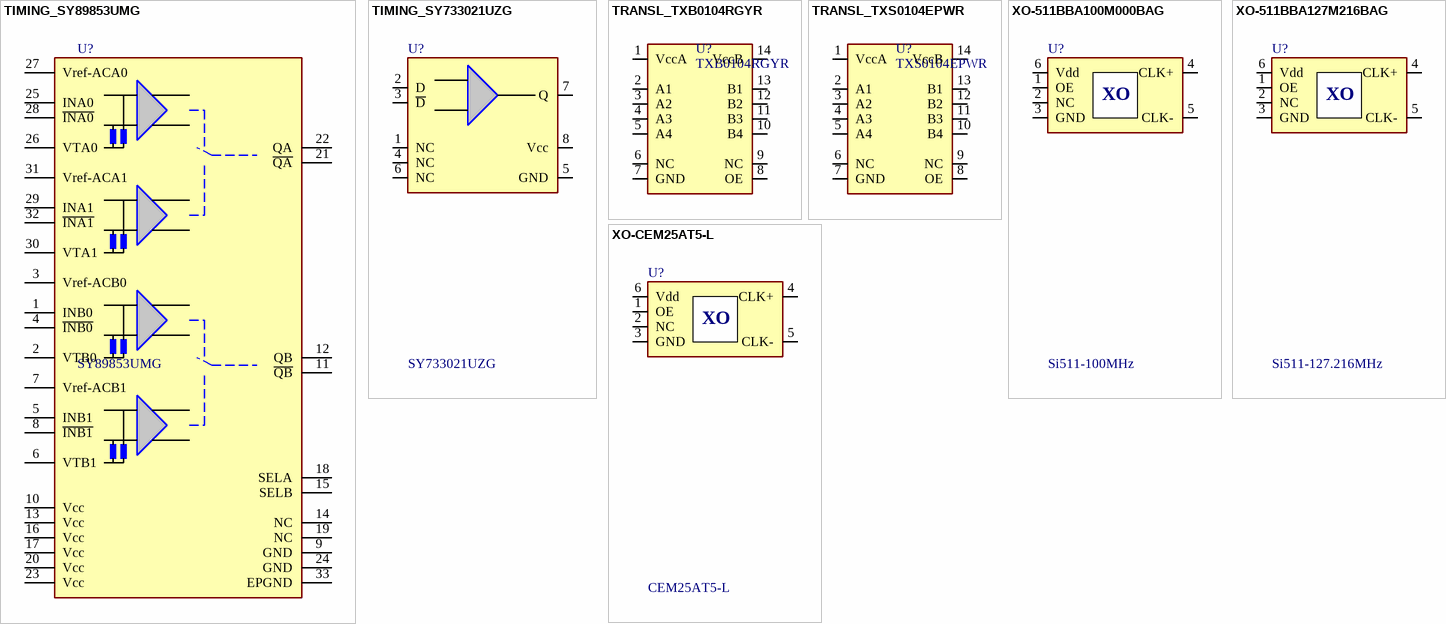
[diagram p2: symbols TIMING_SY89853UMG to XO-CEM25AT5-L]

## TIMING_SY89853UMG
designator U?, comment SY89853UMG
Dual 1-to-2 Diff Fan-Out Buffer 2.5Gbps; Manufacturer: Micrel; Tech: SMDR; Manufacturer No: SY89853UMG; Package: QFN-32; Supplier 1: Mouser; Supplier Part Number 1: 998-SY89853UMG; Supplier 2: Digi-Key; Supplier Part Number 2: 576-3710-ND
footprint QFN32-1 (QFN32  W32pin 5.0x5.0mm H0.9mm R0.5 mm PP3.5x3.5mm)
pins: 1 INB0, 2 VTB0, 3 Vref-ACB0, 4 ~{INB0}, 5 INB1, 6 VTB1, 7 Vref-ACB1, 8 ~{INB1}, 9 GND, 10 Vcc, 11 ~{QB}, 12 QB, 13 Vcc, 14 NC, 15 SELB, 16 Vcc, 17 Vcc, 18 SELA, 19 NC, 20 Vcc, 21 ~{QA}, 22 QA, 23 Vcc, 24 GND, 25 INA0, 26 VTA0, 27 Vref-ACA0, 28 ~{INA0}, 29 INA1, 30 VTA1, 31 Vref-ACA1, 32 ~{INA1}, 33 EPGND

## TIMING_SY733021UZG
designator U?, comment SY733021UZG
1-to-1 Diff to SingleE Translator; Manufacturer: Micrel; Tech: SMDR; Manufacturer No: SY733021UZG; Package: SOIC-8; Supplier 1: Mouser; Supplier Part Number 1: 998-SY733021UZG; Supplier 2: Digi-Key; Supplier Part Number 2: 576-4859-ND
footprint LFCSP16 (Lead Frame Chip Scale Package 16 pin 3x3mm R0.5mm)
pins: 1 NC, 2 D, 3 ~{D}, 4 NC, 5 GND, 6 NC, 7 Q, 8 Vcc

## TRANSL_TXB0104RGYR
designator U?, comment TXB0104RGYR
4CH Auto Sense Bidiractional Level Translator; Manufacturer: Texas Instruments; Tech: SMDR; Manufacturer No: TXB0104RGYR; Package: TSSOP16; Supplier 1: Digi-Key; Supplier Part Number 1: 296-21930-6-ND; Supplier 2: Mouser; Supplier Part Number 2: 595-TXB0104RGYR
footprint QFN50P350X350X100_HS-15N (QFN, 14-Leads, Body 3,50x3,50mm, Pitch 1,50mm/0,50mm, Thermal Pad 2,05x1,95mm, IPC Medium Density)
pins: 1 VccA, 2 A1, 3 A2, 4 A3, 5 A4, 6 NC, 7 GND, 8 OE, 9 NC, 10 B4, 11 B3, 12 B2, 13 B1, 14 VccB

## TRANSL_TXS0104EPWR
designator U?, comment TXS0104EPWR
4 Channel Bidiractional Level Translator; Manufacturer: Texas Instruments; Tech: SMDR; Manufacturer No: TXS0104EPWR; Package: TSSOP16; Supplier 1: Mouser; Supplier Part Number 1: 595-TXS0104EPWR; Supplier 2: Newark; Supplier Part Number 2: 10M0691; Supplier 3: Digi-Key; Supplier Part Number 3: 296-20697-1-ND
footprint TSSOP14 (TSSOP14 5x4.4mm R0.65mm)
pins: 1 VccA, 2 A1, 3 A2, 4 A3, 5 A4, 6 NC, 7 GND, 8 OE, 9 NC, 10 B4, 11 B3, 12 B2, 13 B1, 14 VccB

## XO-511BBA100M000BAG
designator U?, comment Si511-100MHz
Crystal Oscilator (XO) 100MHz; Manufacturer: Silicon Labs; Manufacturer No: 511BBA100M000BAG; Tech: SMDR; Package: 5x3.2; Supplier 1: Digi-Key; Supplier Part Number 1: 336-2634-ND; Supplier 2: Mouser; Supplier Part Number 2: 634-11BBA100M000BAGR; Supplier 3: Newark; Supplier Part Number 3: 39X0641
footprint OSC-3.2x5.0 6pin (Oscillator leadless 5x3.2x1.3mm)
pins: 1 OE, 2 NC, 3 GND, 4 CLK+, 5 CLK-, 6 Vdd
text: XO

## XO-511BBA127M216BAG
designator U?, comment Si511-127.216MHz
Crystal Oscilator (XO) 127.216MHz; Manufacturer: Silicon Labs; Manufacturer No: 511BBA127M216BAG; Tech: SMDR; Package: 5x3.2; Supplier 1: Silicon Labs; Supplier Part Number 1: 511BBA127M216BAG; Supplier Unit Price 1: 3.54
footprint OSC-3.2x5.0 6pin (Oscillator leadless 5x3.2x1.3mm)
pins: 1 OE, 2 NC, 3 GND, 4 CLK+, 5 CLK-, 6 Vdd
text: XO

## XO-CEM25AT5-L
designator U?, comment CEM25AT5-L
Crystal Oscilator (XO) 127.216MHz LVDS; Manufacturer: Elsena; Tech: SMDR; Manufacturer No: CEM25AT5-L; Package: 7.5x5; Supplier 1: Elsena; Supplier Part Number 1: CEM25AT5-L; Supplier Part Number 1: *
footprint OSC5X7-61 (Crystal oscillator 5x7x1.65mm 6pin)
pins: 1 OE, 2 NC, 3 GND, 4 CLK+, 5 CLK-, 6 Vdd
text: XO